# Altium schematic symbol library 2020-01-28_00-34-26.SchLib: 2 symbols
Pins are listed as number, name and electrical type; pins without a type are passive.

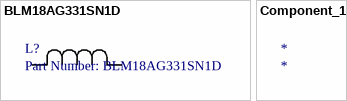
[diagram p0: symbols BLM18AG331SN1D to Component_1]

## BLM18AG331SN1D
designator L?, comment Part Number: BLM18AG331SN1D
No Description Available; Vendor: MURATA; Built_By: EMA_UL_Team; Type: DEV; Manufacturer_Part_Number: BLM18AG331SN1D; Copyright: Copyright (C) 2018 Accelerated Designs. All rights reserved; RefDes: RefDes; Value: Value
footprint IND_BLM18_0603
pins: 1, 2

## Component_1
designator *